# Altium integrated library 自定义库.IntLib: 520 symbols (part 6 of 6)
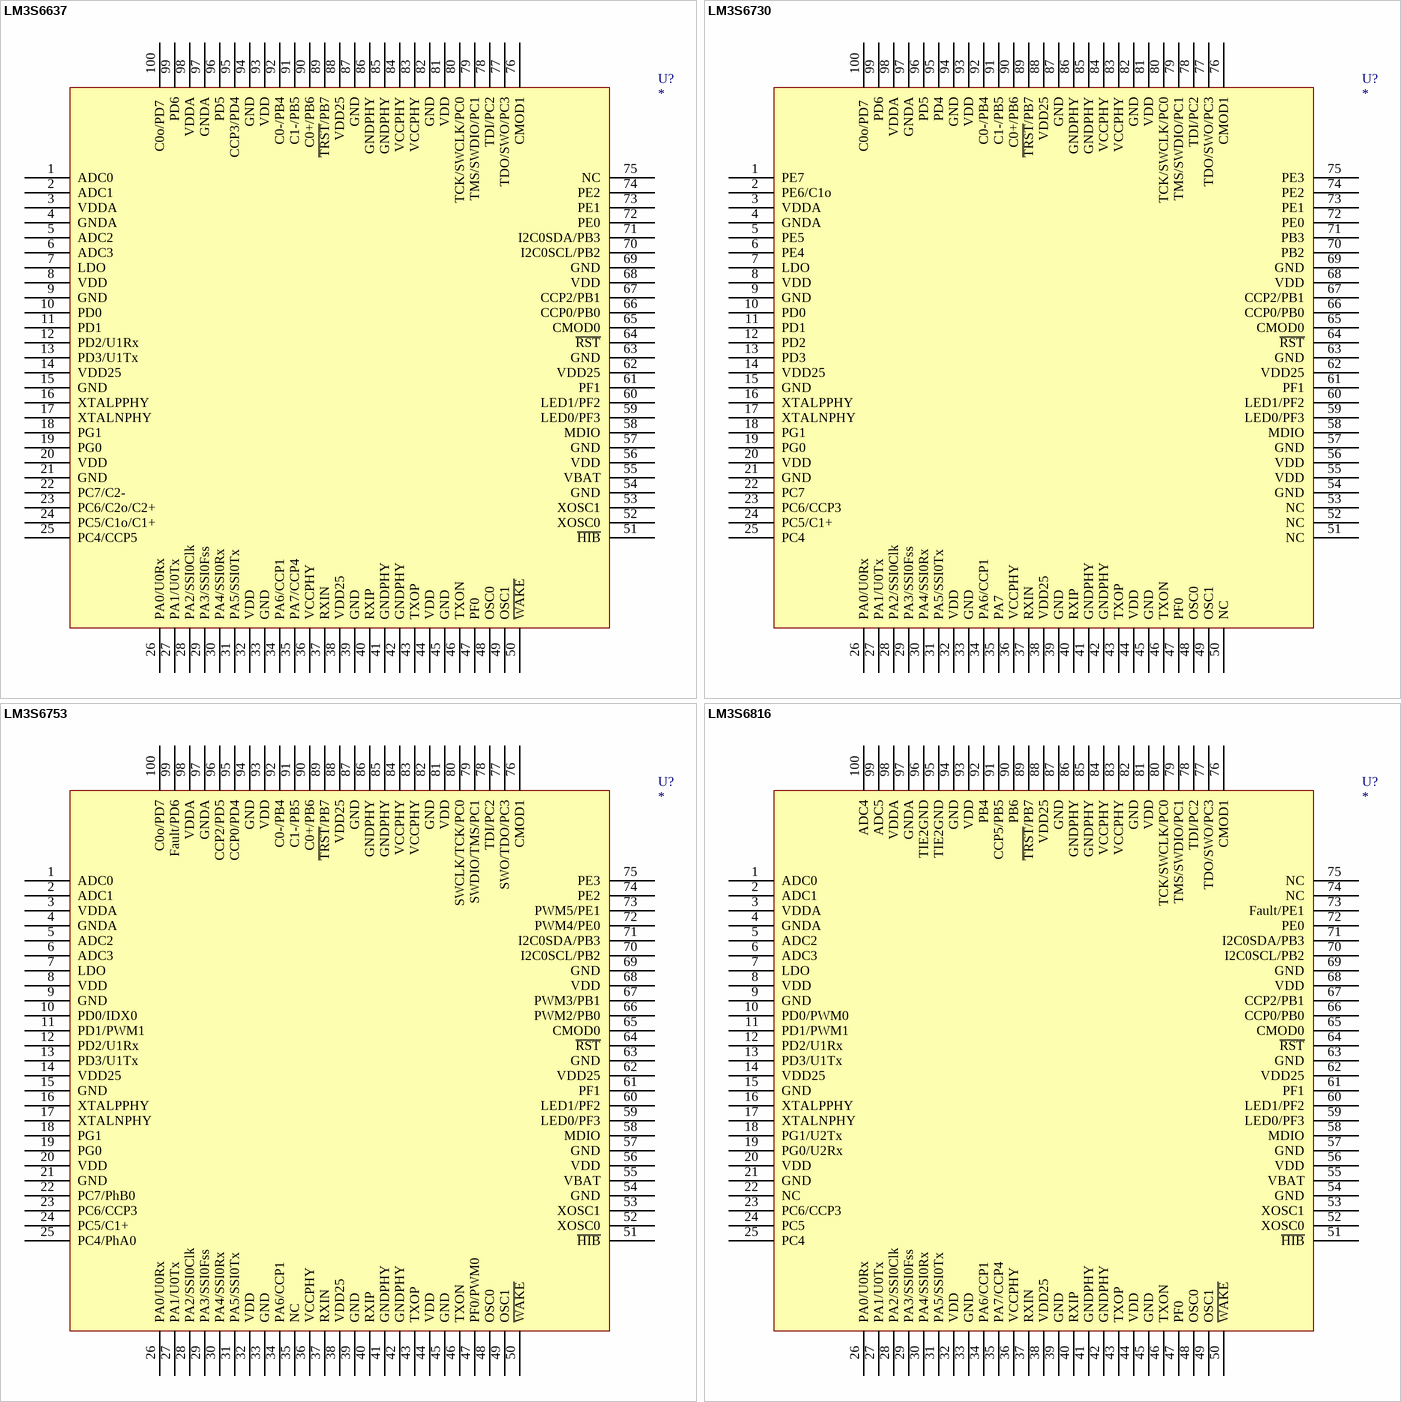
[diagram p45: symbols LM3S6637 to LM3S6816]

## LM3S6753
designator U?
footprint LQFP-100
pins: 1 ADC0, 2 ADC1, 3 VDDA, 4 GNDA, 5 ADC2, 6 ADC3, 7 LDO, 8 VDD, 9 GND, 10 PD0/IDX0, 11 PD1/PWM1, 12 PD2/U1Rx, 13 PD3/U1Tx, 14 VDD25, 15 GND, 16 XTALPPHY, 17 XTALNPHY, 18 PG1, 19 PG0, 20 VDD, 21 GND, 22 PC7/PhB0, 23 PC6/CCP3, 24 PC5/C1+, 25 PC4/PhA0, 26 PA0/U0Rx, 27 PA1/U0Tx, 28 PA2/SSI0Clk, 29 PA3/SSI0Fss, 30 PA4/SSI0Rx, 31 PA5/SSI0Tx, 32 VDD, 33 GND, 34 PA6/CCP1, 35 NC, 36 VCCPHY, 37 RXIN, 38 VDD25, 39 GND, 40 RXIP, 41 GNDPHY, 42 GNDPHY, 43 TXOP, 44 VDD, 45 GND, 46 TXON, 47 PF0/PWM0, 48 OSC0, 49 OSC1, 50 ~{WAKE}, 51 ~{HIB}, 52 XOSC0, 53 XOSC1, 54 GND, 55 VBAT, 56 VDD, 57 GND, 58 MDIO, 59 LED0/PF3, 60 LED1/PF2, 61 PF1, 62 VDD25, 63 GND, 64 ~{RST}, 65 CMOD0, 66 PWM2/PB0, 67 PWM3/PB1, 68 VDD, 69 GND, 70 I2C0SCL/PB2, 71 I2C0SDA/PB3, 72 PWM4/PE0, 73 PWM5/PE1, 74 PE2, 75 PE3, 76 CMOD1, 77 SWO/TDO/PC3, 78 TDI/PC2, 79 SWDIO/TMS/PC1, 80 SWCLK/TCK/PC0, 81 VDD, 82 GND, 83 VCCPHY, 84 VCCPHY, 85 GNDPHY, 86 GNDPHY, 87 GND, 88 VDD25, 89 ~{TRST}/PB7, 90 C0+/PB6, 91 C1-/PB5, 92 C0-/PB4, 93 VDD, 94 GND, 95 CCP0/PD4, 96 CCP2/PD5, 97 GNDA, 98 VDDA, 99 Fault/PD6, 100 C0o/PD7

## LM3S6816
designator U?
footprint LQFP-100
pins: 1 ADC0, 2 ADC1, 3 VDDA, 4 GNDA, 5 ADC2, 6 ADC3, 7 LDO, 8 VDD, 9 GND, 10 PD0/PWM0, 11 PD1/PWM1, 12 PD2/U1Rx, 13 PD3/U1Tx, 14 VDD25, 15 GND, 16 XTALPPHY, 17 XTALNPHY, 18 PG1/U2Tx, 19 PG0/U2Rx, 20 VDD, 21 GND, 22 NC, 23 PC6/CCP3, 24 PC5, 25 PC4, 26 PA0/U0Rx, 27 PA1/U0Tx, 28 PA2/SSI0Clk, 29 PA3/SSI0Fss, 30 PA4/SSI0Rx, 31 PA5/SSI0Tx, 32 VDD, 33 GND, 34 PA6/CCP1, 35 PA7/CCP4, 36 VCCPHY, 37 RXIN, 38 VDD25, 39 GND, 40 RXIP, 41 GNDPHY, 42 GNDPHY, 43 TXOP, 44 VDD, 45 GND, 46 TXON, 47 PF0, 48 OSC0, 49 OSC1, 50 ~{WAKE}, 51 ~{HIB}, 52 XOSC0, 53 XOSC1, 54 GND, 55 VBAT, 56 VDD, 57 GND, 58 MDIO, 59 LED0/PF3, 60 LED1/PF2, 61 PF1, 62 VDD25, 63 GND, 64 ~{RST}, 65 CMOD0, 66 CCP0/PB0, 67 CCP2/PB1, 68 VDD, 69 GND, 70 I2C0SCL/PB2, 71 I2C0SDA/PB3, 72 PE0, 73 Fault/PE1, 74 NC, 75 NC, 76 CMOD1, 77 TDO/SWO/PC3, 78 TDI/PC2, 79 TMS/SWDIO/PC1, 80 TCK/SWCLK/PC0, 81 VDD, 82 GND, 83 VCCPHY, 84 VCCPHY, 85 GNDPHY, 86 GNDPHY, 87 GND, 88 VDD25, 89 ~{TRST}/PB7, 90 PB6, 91 CCP5/PB5, 92 PB4, 93 VDD, 94 GND, 95 TIE2GND, 96 TIE2GND, 97 GNDA, 98 VDDA, 99 ADC5, 100 ADC4

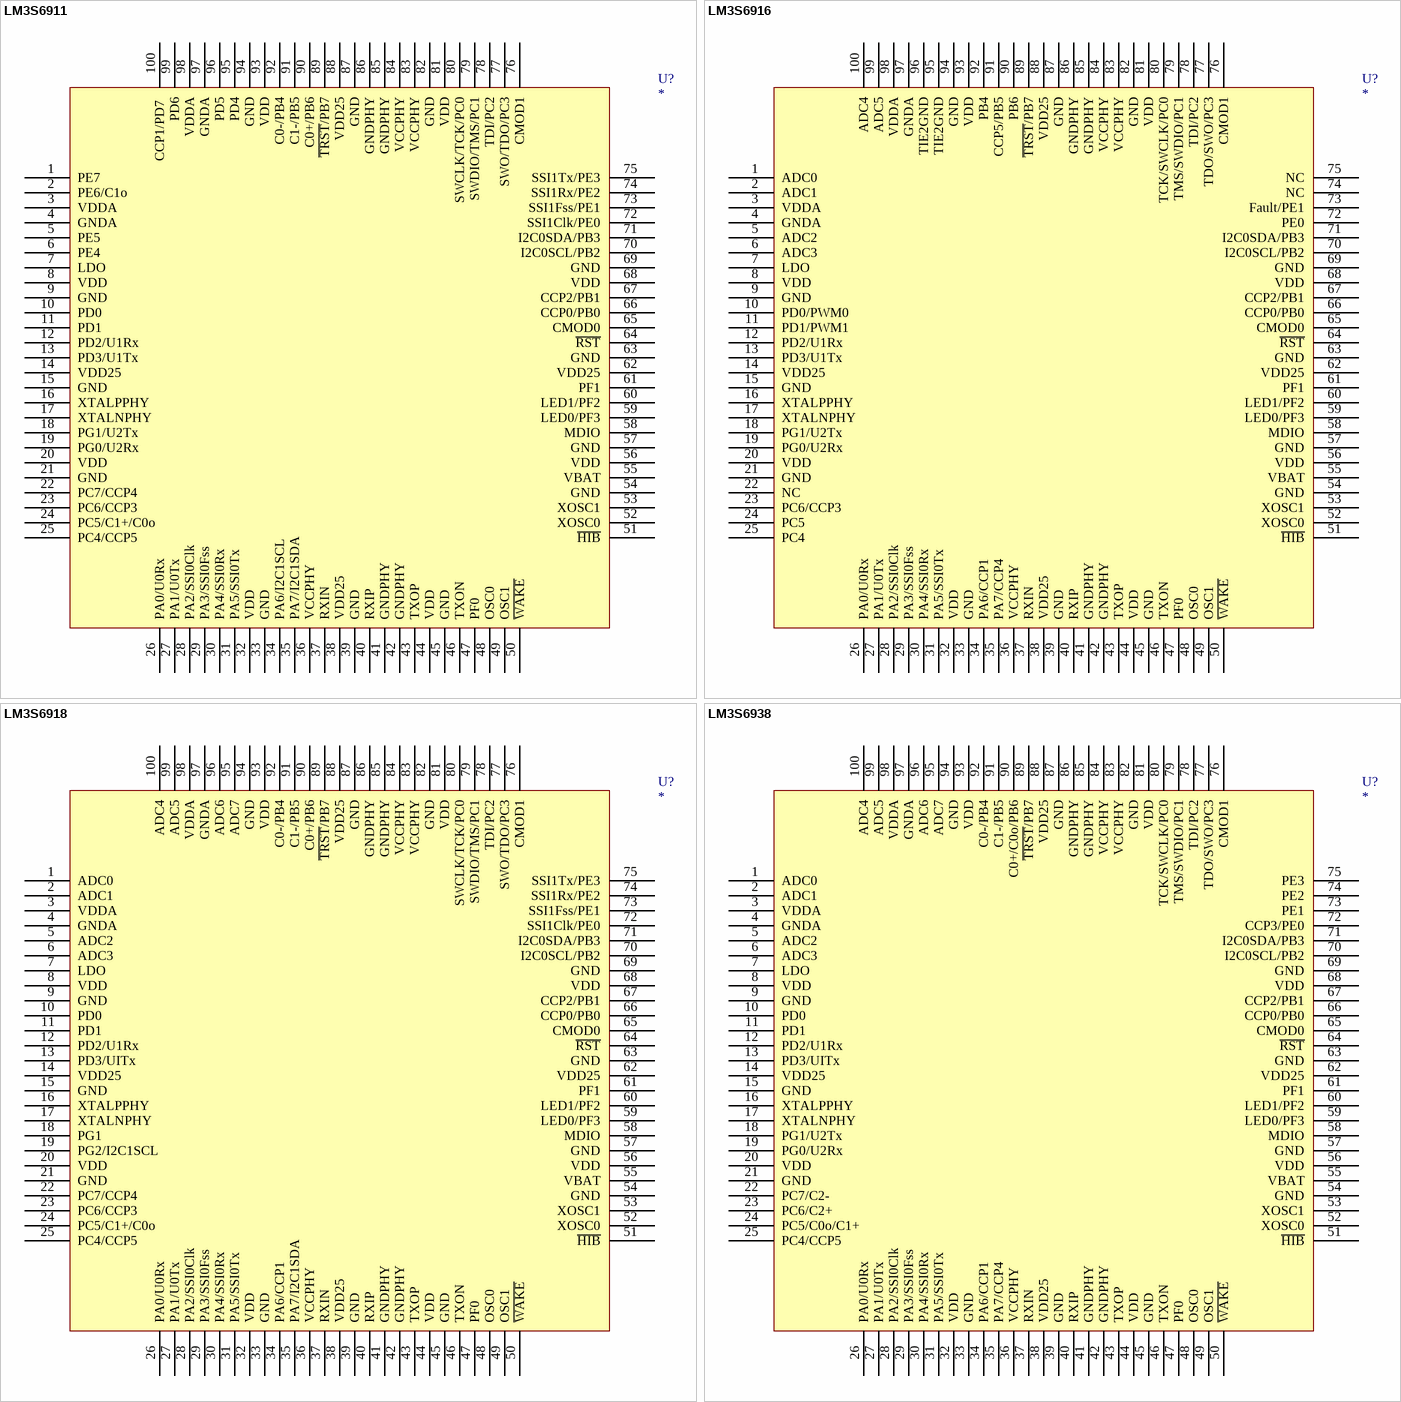
[diagram p36: symbols LM3S6911 to LM3S6938]

## LM3S6911
designator U?
footprint LQFP-100
pins: 1 PE7, 2 PE6/C1o, 3 VDDA, 4 GNDA, 5 PE5, 6 PE4, 7 LDO, 8 VDD, 9 GND, 10 PD0, 11 PD1, 12 PD2/U1Rx, 13 PD3/U1Tx, 14 VDD25, 15 GND, 16 XTALPPHY, 17 XTALNPHY, 18 PG1/U2Tx, 19 PG0/U2Rx, 20 VDD, 21 GND, 22 PC7/CCP4, 23 PC6/CCP3, 24 PC5/C1+/C0o, 25 PC4/CCP5, 26 PA0/U0Rx, 27 PA1/U0Tx, 28 PA2/SSI0Clk, 29 PA3/SSI0Fss, 30 PA4/SSI0Rx, 31 PA5/SSI0Tx, 32 VDD, 33 GND, 34 PA6/I2C1SCL, 35 PA7/I2C1SDA, 36 VCCPHY, 37 RXIN, 38 VDD25, 39 GND, 40 RXIP, 41 GNDPHY, 42 GNDPHY, 43 TXOP, 44 VDD, 45 GND, 46 TXON, 47 PF0, 48 OSC0, 49 OSC1, 50 ~{WAKE}, 51 ~{HIB}, 52 XOSC0, 53 XOSC1, 54 GND, 55 VBAT, 56 VDD, 57 GND, 58 MDIO, 59 LED0/PF3, 60 LED1/PF2, 61 PF1, 62 VDD25, 63 GND, 64 ~{RST}, 65 CMOD0, 66 CCP0/PB0, 67 CCP2/PB1, 68 VDD, 69 GND, 70 I2C0SCL/PB2, 71 I2C0SDA/PB3, 72 SSI1Clk/PE0, 73 SSI1Fss/PE1, 74 SSI1Rx/PE2, 75 SSI1Tx/PE3, 76 CMOD1, 77 SWO/TDO/PC3, 78 TDI/PC2, 79 SWDIO/TMS/PC1, 80 SWCLK/TCK/PC0, 81 VDD, 82 GND, 83 VCCPHY, 84 VCCPHY, 85 GNDPHY, 86 GNDPHY, 87 GND, 88 VDD25, 89 ~{TRST}/PB7, 90 C0+/PB6, 91 C1-/PB5, 92 C0-/PB4, 93 VDD, 94 GND, 95  PD4, 96 PD5, 97 GNDA, 98 VDDA, 99 PD6, 100 CCP1/PD7 

## LM3S6916
designator U?
footprint LQFP-100
pins: 1 ADC0, 2 ADC1, 3 VDDA, 4 GNDA, 5 ADC2, 6 ADC3, 7 LDO, 8 VDD, 9 GND, 10 PD0/PWM0, 11 PD1/PWM1, 12 PD2/U1Rx, 13 PD3/U1Tx, 14 VDD25, 15 GND, 16 XTALPPHY, 17 XTALNPHY, 18 PG1/U2Tx, 19 PG0/U2Rx, 20 VDD, 21 GND, 22 NC, 23 PC6/CCP3, 24 PC5, 25 PC4, 26 PA0/U0Rx, 27 PA1/U0Tx, 28 PA2/SSI0Clk, 29 PA3/SSI0Fss, 30 PA4/SSI0Rx, 31 PA5/SSI0Tx, 32 VDD, 33 GND, 34 PA6/CCP1, 35 PA7/CCP4, 36 VCCPHY, 37 RXIN, 38 VDD25, 39 GND, 40 RXIP, 41 GNDPHY, 42 GNDPHY, 43 TXOP, 44 VDD, 45 GND, 46 TXON, 47 PF0, 48 OSC0, 49 OSC1, 50 ~{WAKE}, 51 ~{HIB}, 52 XOSC0, 53 XOSC1, 54 GND, 55 VBAT, 56 VDD, 57 GND, 58 MDIO, 59 LED0/PF3, 60 LED1/PF2, 61 PF1, 62 VDD25, 63 GND, 64 ~{RST}, 65 CMOD0, 66 CCP0/PB0, 67 CCP2/PB1, 68 VDD, 69 GND, 70 I2C0SCL/PB2, 71 I2C0SDA/PB3, 72 PE0, 73 Fault/PE1, 74 NC, 75 NC, 76 CMOD1, 77 TDO/SWO/PC3, 78 TDI/PC2, 79 TMS/SWDIO/PC1, 80 TCK/SWCLK/PC0, 81 VDD, 82 GND, 83 VCCPHY, 84 VCCPHY, 85 GNDPHY, 86 GNDPHY, 87 GND, 88 VDD25, 89 ~{TRST}/PB7, 90 PB6, 91 CCP5/PB5, 92 PB4, 93 VDD, 94 GND, 95 TIE2GND, 96 TIE2GND, 97 GNDA, 98 VDDA, 99 ADC5, 100 ADC4

## LM3S6918
designator U?
footprint LQFP-100
pins: 1 ADC0, 2 ADC1, 3 VDDA, 4 GNDA, 5 ADC2, 6 ADC3, 7 LDO, 8 VDD, 9 GND, 10 PD0, 11 PD1, 12 PD2/U1Rx, 13 PD3/UITx, 14 VDD25, 15 GND, 16 XTALPPHY, 17 XTALNPHY, 18 PG1, 19 PG2/I2C1SCL, 20 VDD, 21 GND, 22 PC7/CCP4, 23 PC6/CCP3, 24 PC5/C1+/C0o, 25 PC4/CCP5, 26 PA0/U0Rx, 27 PA1/U0Tx, 28 PA2/SSI0Clk, 29 PA3/SSI0Fss, 30 PA4/SSI0Rx, 31 PA5/SSI0Tx, 32 VDD, 33 GND, 34 PA6/CCP1, 35 PA7/I2C1SDA, 36 VCCPHY, 37 RXIN, 38 VDD25, 39 GND, 40 RXIP, 41 GNDPHY, 42 GNDPHY, 43 TXOP, 44 VDD, 45 GND, 46 TXON, 47 PF0, 48 OSC0, 49 OSC1, 50 ~{WAKE}, 51 ~{HIB}, 52 XOSC0, 53 XOSC1, 54 GND, 55 VBAT, 56 VDD, 57 GND, 58 MDIO, 59 LED0/PF3, 60 LED1/PF2, 61 PF1, 62 VDD25, 63 GND, 64 ~{RST}, 65 CMOD0, 66 CCP0/PB0, 67 CCP2/PB1, 68 VDD, 69 GND, 70 I2C0SCL/PB2, 71 I2C0SDA/PB3, 72 SSI1Clk/PE0, 73 SSI1Fss/PE1, 74 SSI1Rx/PE2, 75 SSI1Tx/PE3, 76 CMOD1, 77 SWO/TDO/PC3, 78 TDI/PC2, 79 SWDIO/TMS/PC1, 80 SWCLK/TCK/PC0, 81 VDD, 82 GND, 83 VCCPHY, 84 VCCPHY, 85 GNDPHY, 86 GNDPHY, 87 GND, 88 VDD25, 89 ~{TRST}/PB7, 90 C0+/PB6, 91 C1-/PB5, 92 C0-/PB4, 93 VDD, 94 GND, 95 ADC7, 96 ADC6, 97 GNDA, 98 VDDA, 99 ADC5, 100 ADC4

## LM3S6938
designator U?
footprint LQFP-100
pins: 1 ADC0, 2 ADC1, 3 VDDA, 4 GNDA, 5 ADC2, 6 ADC3, 7 LDO, 8 VDD, 9 GND, 10 PD0, 11 PD1, 12 PD2/U1Rx, 13 PD3/UITx, 14 VDD25, 15 GND, 16 XTALPPHY, 17 XTALNPHY, 18 PG1/U2Tx, 19 PG0/U2Rx, 20 VDD, 21 GND, 22 PC7/C2-, 23 PC6/C2+, 24 PC5/C0o/C1+, 25 PC4/CCP5, 26 PA0/U0Rx, 27 PA1/U0Tx, 28 PA2/SSI0Clk, 29 PA3/SSI0Fss, 30 PA4/SSI0Rx, 31 PA5/SSI0Tx, 32 VDD, 33 GND, 34 PA6/CCP1, 35 PA7/CCP4, 36 VCCPHY, 37 RXIN, 38 VDD25, 39 GND, 40 RXIP, 41 GNDPHY, 42 GNDPHY, 43 TXOP, 44 VDD, 45 GND, 46 TXON, 47 PF0, 48 OSC0, 49 OSC1, 50 ~{WAKE}, 51 ~{HIB}, 52 XOSC0, 53 XOSC1, 54 GND, 55 VBAT, 56 VDD, 57 GND, 58 MDIO, 59 LED0/PF3, 60 LED1/PF2, 61 PF1, 62 VDD25, 63 GND, 64 ~{RST}, 65 CMOD0, 66 CCP0/PB0, 67 CCP2/PB1, 68 VDD, 69 GND, 70 I2C0SCL/PB2, 71 I2C0SDA/PB3, 72 CCP3/PE0, 73 PE1, 74 PE2, 75 PE3, 76 CMOD1, 77 TDO/SWO/PC3, 78 TDI/PC2, 79 TMS/SWDIO/PC1, 80 TCK/SWCLK/PC0, 81 VDD, 82 GND, 83 VCCPHY, 84 VCCPHY, 85 GNDPHY, 86 GNDPHY, 87 GND, 88 VDD25, 89 ~{TRST}/PB7, 90 C0+/C0o/PB6, 91 C1-/PB5, 92 C0-/PB4, 93 VDD, 94 GND, 95 ADC7, 96 ADC6, 97 GNDA, 98 VDDA, 99 ADC5, 100 ADC4

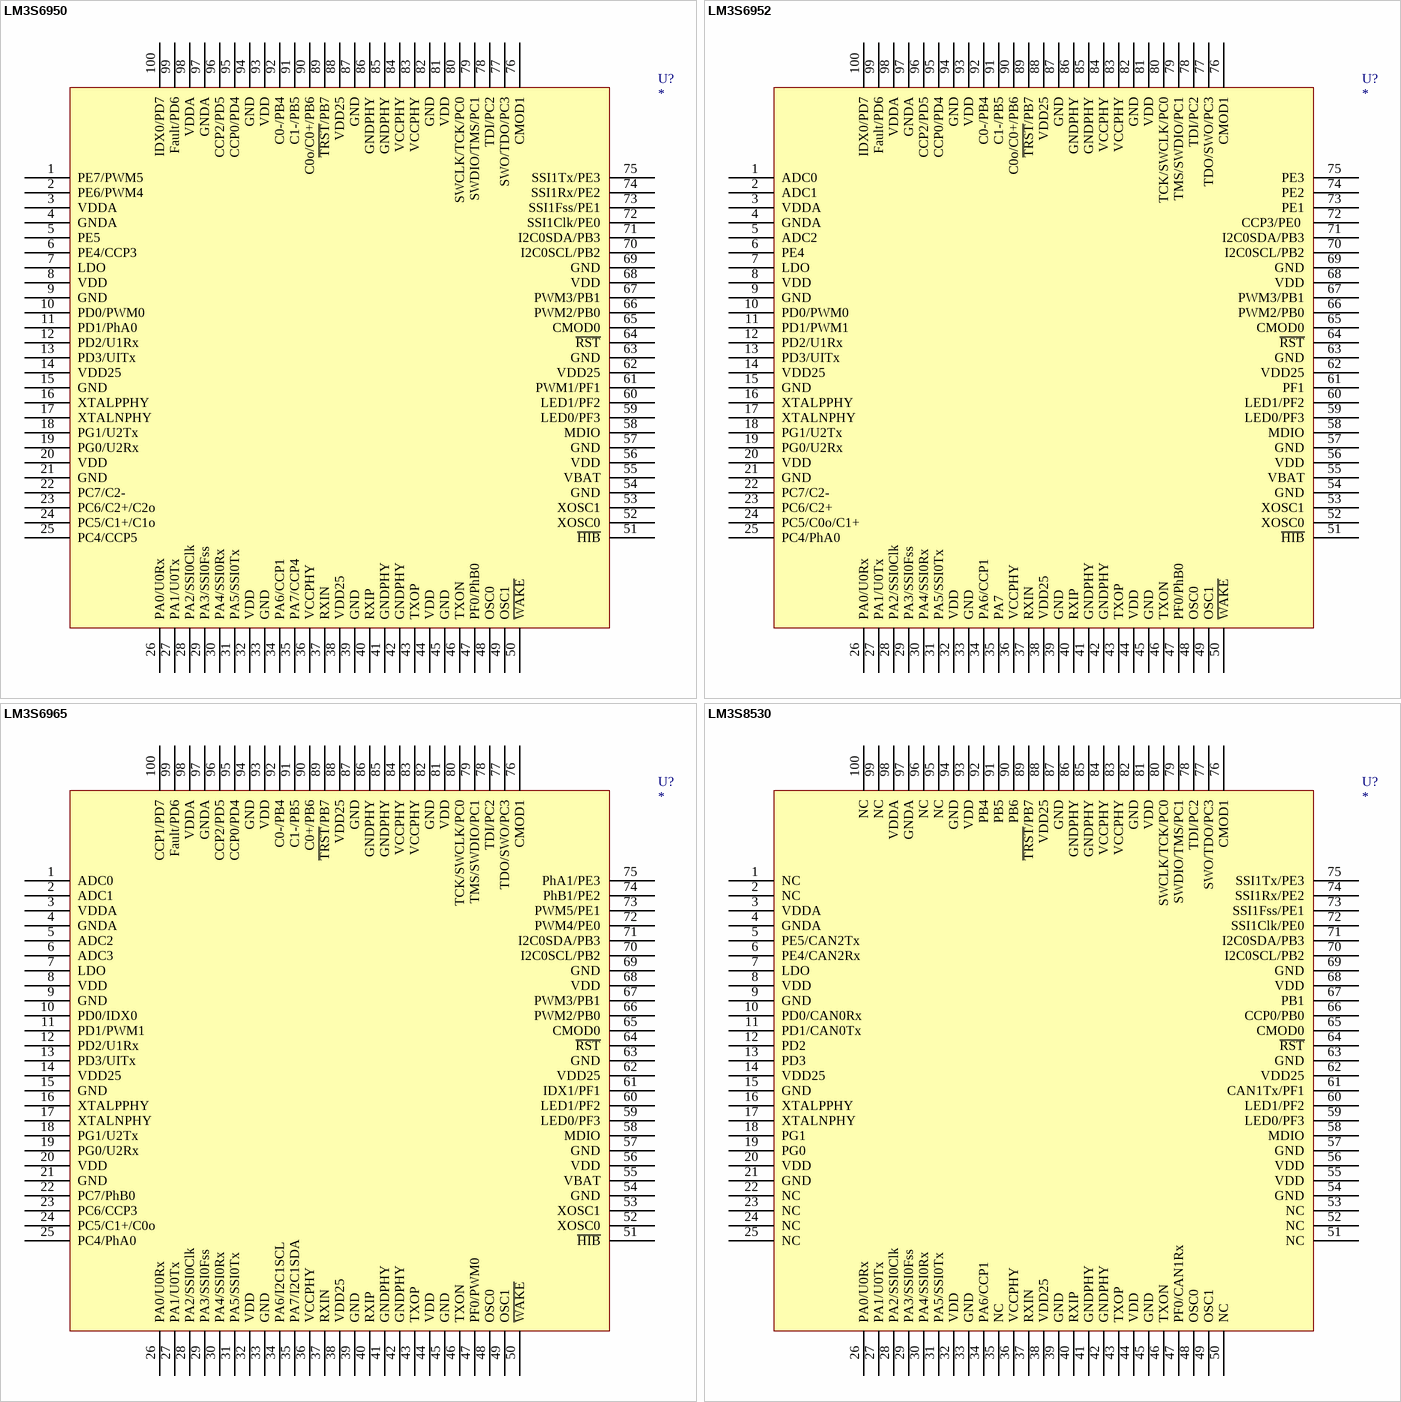
[diagram p37: symbols LM3S6950 to LM3S8530]

## LM3S6950
designator U?
footprint LQFP-100
pins: 1 PE7/PWM5, 2 PE6/PWM4, 3 VDDA, 4 GNDA, 5 PE5, 6 PE4/CCP3, 7 LDO, 8 VDD, 9 GND, 10 PD0/PWM0, 11 PD1/PhA0, 12 PD2/U1Rx, 13 PD3/UITx, 14 VDD25, 15 GND, 16 XTALPPHY, 17 XTALNPHY, 18 PG1/U2Tx, 19 PG0/U2Rx, 20 VDD, 21 GND, 22 PC7/C2-, 23 PC6/C2+/C2o, 24 PC5/C1+/C1o, 25 PC4/CCP5, 26 PA0/U0Rx, 27 PA1/U0Tx, 28 PA2/SSI0Clk, 29 PA3/SSI0Fss, 30 PA4/SSI0Rx, 31 PA5/SSI0Tx, 32 VDD, 33 GND, 34 PA6/CCP1, 35 PA7/CCP4, 36 VCCPHY, 37 RXIN, 38 VDD25, 39 GND, 40 RXIP, 41 GNDPHY, 42 GNDPHY, 43 TXOP, 44 VDD, 45 GND, 46 TXON, 47 PF0/PhB0, 48 OSC0, 49 OSC1, 50 ~{WAKE}, 51 ~{HIB}, 52 XOSC0, 53 XOSC1, 54 GND, 55 VBAT, 56 VDD, 57 GND, 58 MDIO, 59 LED0/PF3, 60 LED1/PF2, 61 PWM1/PF1, 62 VDD25, 63 GND, 64 ~{RST}, 65 CMOD0, 66 PWM2/PB0, 67 PWM3/PB1, 68 VDD, 69 GND, 70 I2C0SCL/PB2, 71 I2C0SDA/PB3, 72 SSI1Clk/PE0, 73 SSI1Fss/PE1, 74 SSI1Rx/PE2, 75 SSI1Tx/PE3, 76 CMOD1, 77 SWO/TDO/PC3, 78 TDI/PC2, 79 SWDIO/TMS/PC1, 80 SWCLK/TCK/PC0, 81 VDD, 82 GND, 83 VCCPHY, 84 VCCPHY, 85 GNDPHY, 86 GNDPHY, 87 GND, 88 VDD25, 89 ~{TRST}/PB7, 90 C0o/C0+/PB6, 91 C1-/PB5, 92 C0-/PB4, 93 VDD, 94 GND, 95 CCP0/PD4, 96 CCP2/PD5, 97 GNDA, 98 VDDA, 99 Fault/PD6, 100 IDX0/PD7

## LM3S6952
designator U?
footprint LQFP-100
pins: 1 ADC0, 2 ADC1, 3 VDDA, 4 GNDA, 5 ADC2, 6 PE4, 7 LDO, 8 VDD, 9 GND, 10 PD0/PWM0, 11 PD1/PWM1, 12 PD2/U1Rx, 13 PD3/UITx, 14 VDD25, 15 GND, 16 XTALPPHY, 17 XTALNPHY, 18 PG1/U2Tx, 19 PG0/U2Rx, 20 VDD, 21 GND, 22 PC7/C2-, 23 PC6/C2+, 24 PC5/C0o/C1+, 25 PC4/PhA0, 26 PA0/U0Rx, 27 PA1/U0Tx, 28 PA2/SSI0Clk, 29 PA3/SSI0Fss, 30 PA4/SSI0Rx, 31 PA5/SSI0Tx, 32 VDD, 33 GND, 34 PA6/CCP1, 35 PA7, 36 VCCPHY, 37 RXIN, 38 VDD25, 39 GND, 40 RXIP, 41 GNDPHY, 42 GNDPHY, 43 TXOP, 44 VDD, 45 GND, 46 TXON, 47 PF0/PhB0, 48 OSC0, 49 OSC1, 50 ~{WAKE}, 51 ~{HIB}, 52 XOSC0, 53 XOSC1, 54 GND, 55 VBAT, 56 VDD, 57 GND, 58 MDIO, 59 LED0/PF3, 60 LED1/PF2, 61 PF1, 62 VDD25, 63 GND, 64 ~{RST}, 65 CMOD0, 66 PWM2/PB0, 67 PWM3/PB1, 68 VDD, 69 GND, 70 I2C0SCL/PB2, 71 I2C0SDA/PB3, 72 CCP3/PE0 , 73 PE1, 74 PE2, 75 PE3, 76 CMOD1, 77 TDO/SWO/PC3, 78 TDI/PC2, 79 TMS/SWDIO/PC1, 80 TCK/SWCLK/PC0, 81 VDD, 82 GND, 83 VCCPHY, 84 VCCPHY, 85 GNDPHY, 86 GNDPHY, 87 GND, 88 VDD25, 89 ~{TRST}/PB7, 90 C0o/C0+/PB6, 91 C1-/PB5, 92 C0-/PB4, 93 VDD, 94 GND, 95 CCP0/PD4, 96 CCP2/PD5, 97 GNDA, 98 VDDA, 99 Fault/PD6, 100 IDX0/PD7

## LM3S6965
designator U?
footprint LQFP-100
pins: 1 ADC0, 2 ADC1, 3 VDDA, 4 GNDA, 5 ADC2, 6 ADC3, 7 LDO, 8 VDD, 9 GND, 10 PD0/IDX0, 11 PD1/PWM1, 12 PD2/U1Rx, 13 PD3/UITx, 14 VDD25, 15 GND, 16 XTALPPHY, 17 XTALNPHY, 18 PG1/U2Tx, 19 PG0/U2Rx, 20 VDD, 21 GND, 22 PC7/PhB0, 23 PC6/CCP3, 24 PC5/C1+/C0o, 25 PC4/PhA0, 26 PA0/U0Rx, 27 PA1/U0Tx, 28 PA2/SSI0Clk, 29 PA3/SSI0Fss, 30 PA4/SSI0Rx, 31 PA5/SSI0Tx, 32 VDD, 33 GND, 34 PA6/I2C1SCL, 35 PA7/I2C1SDA, 36 VCCPHY, 37 RXIN, 38 VDD25, 39 GND, 40 RXIP, 41 GNDPHY, 42 GNDPHY, 43 TXOP, 44 VDD, 45 GND, 46 TXON, 47 PF0/PWM0, 48 OSC0, 49 OSC1, 50 ~{WAKE}, 51 ~{HIB}, 52 XOSC0, 53 XOSC1, 54 GND, 55 VBAT, 56 VDD, 57 GND, 58 MDIO, 59 LED0/PF3, 60 LED1/PF2, 61 IDX1/PF1, 62 VDD25, 63 GND, 64 ~{RST}, 65 CMOD0, 66  PWM2/PB0, 67 PWM3/PB1, 68 VDD, 69 GND, 70 I2C0SCL/PB2, 71 I2C0SDA/PB3, 72 PWM4/PE0, 73 PWM5/PE1, 74 PhB1/PE2, 75 PhA1/PE3, 76 CMOD1, 77 TDO/SWO/PC3, 78 TDI/PC2, 79 TMS/SWDIO/PC1, 80 TCK/SWCLK/PC0, 81 VDD, 82 GND, 83 VCCPHY, 84 VCCPHY, 85 GNDPHY, 86 GNDPHY, 87 GND, 88 VDD25, 89 ~{TRST}/PB7, 90 C0+/PB6, 91 C1-/PB5, 92 C0-/PB4, 93 VDD, 94 GND, 95 CCP0/PD4, 96 CCP2/PD5, 97 GNDA, 98 VDDA, 99 Fault/PD6, 100 CCP1/PD7

## LM3S8530
designator U?
footprint LQFP-100
pins: 1 NC, 2 NC, 3 VDDA, 4 GNDA, 5 PE5/CAN2Tx, 6 PE4/CAN2Rx, 7 LDO, 8 VDD, 9 GND, 10 PD0/CAN0Rx, 11 PD1/CAN0Tx, 12 PD2, 13 PD3, 14 VDD25, 15 GND, 16 XTALPPHY, 17 XTALNPHY, 18 PG1, 19 PG0, 20 VDD, 21 GND, 22 NC, 23 NC, 24 NC, 25 NC, 26 PA0/U0Rx, 27 PA1/U0Tx, 28 PA2/SSI0Clk, 29 PA3/SSI0Fss, 30 PA4/SSI0Rx, 31 PA5/SSI0Tx, 32 VDD, 33 GND, 34 PA6/CCP1, 35 NC, 36 VCCPHY, 37 RXIN, 38 VDD25, 39 GND, 40 RXIP, 41 GNDPHY, 42 GNDPHY, 43 TXOP, 44 VDD, 45 GND, 46 TXON, 47 PF0/CAN1Rx, 48 OSC0, 49 OSC1, 50 NC, 51 NC, 52 NC, 53 NC, 54 GND, 55 VDD, 56 VDD, 57 GND, 58 MDIO, 59 LED0/PF3, 60 LED1/PF2, 61 CAN1Tx/PF1, 62 VDD25, 63 GND, 64 ~{RST}, 65 CMOD0, 66 CCP0/PB0, 67 PB1, 68 VDD, 69 GND, 70 I2C0SCL/PB2, 71 I2C0SDA/PB3, 72 SSI1Clk/PE0, 73 SSI1Fss/PE1, 74 SSI1Rx/PE2, 75 SSI1Tx/PE3, 76 CMOD1, 77 SWO/TDO/PC3, 78 TDI/PC2, 79 SWDIO/TMS/PC1, 80 SWCLK/TCK/PC0, 81 VDD, 82 GND, 83 VCCPHY, 84 VCCPHY, 85 GNDPHY, 86 GNDPHY, 87 GND, 88 VDD25, 89 ~{TRST}/PB7, 90 PB6, 91 PB5, 92 PB4, 93 VDD, 94 GND, 95 NC, 96 NC, 97 GNDA, 98 VDDA, 99 NC, 100 NC

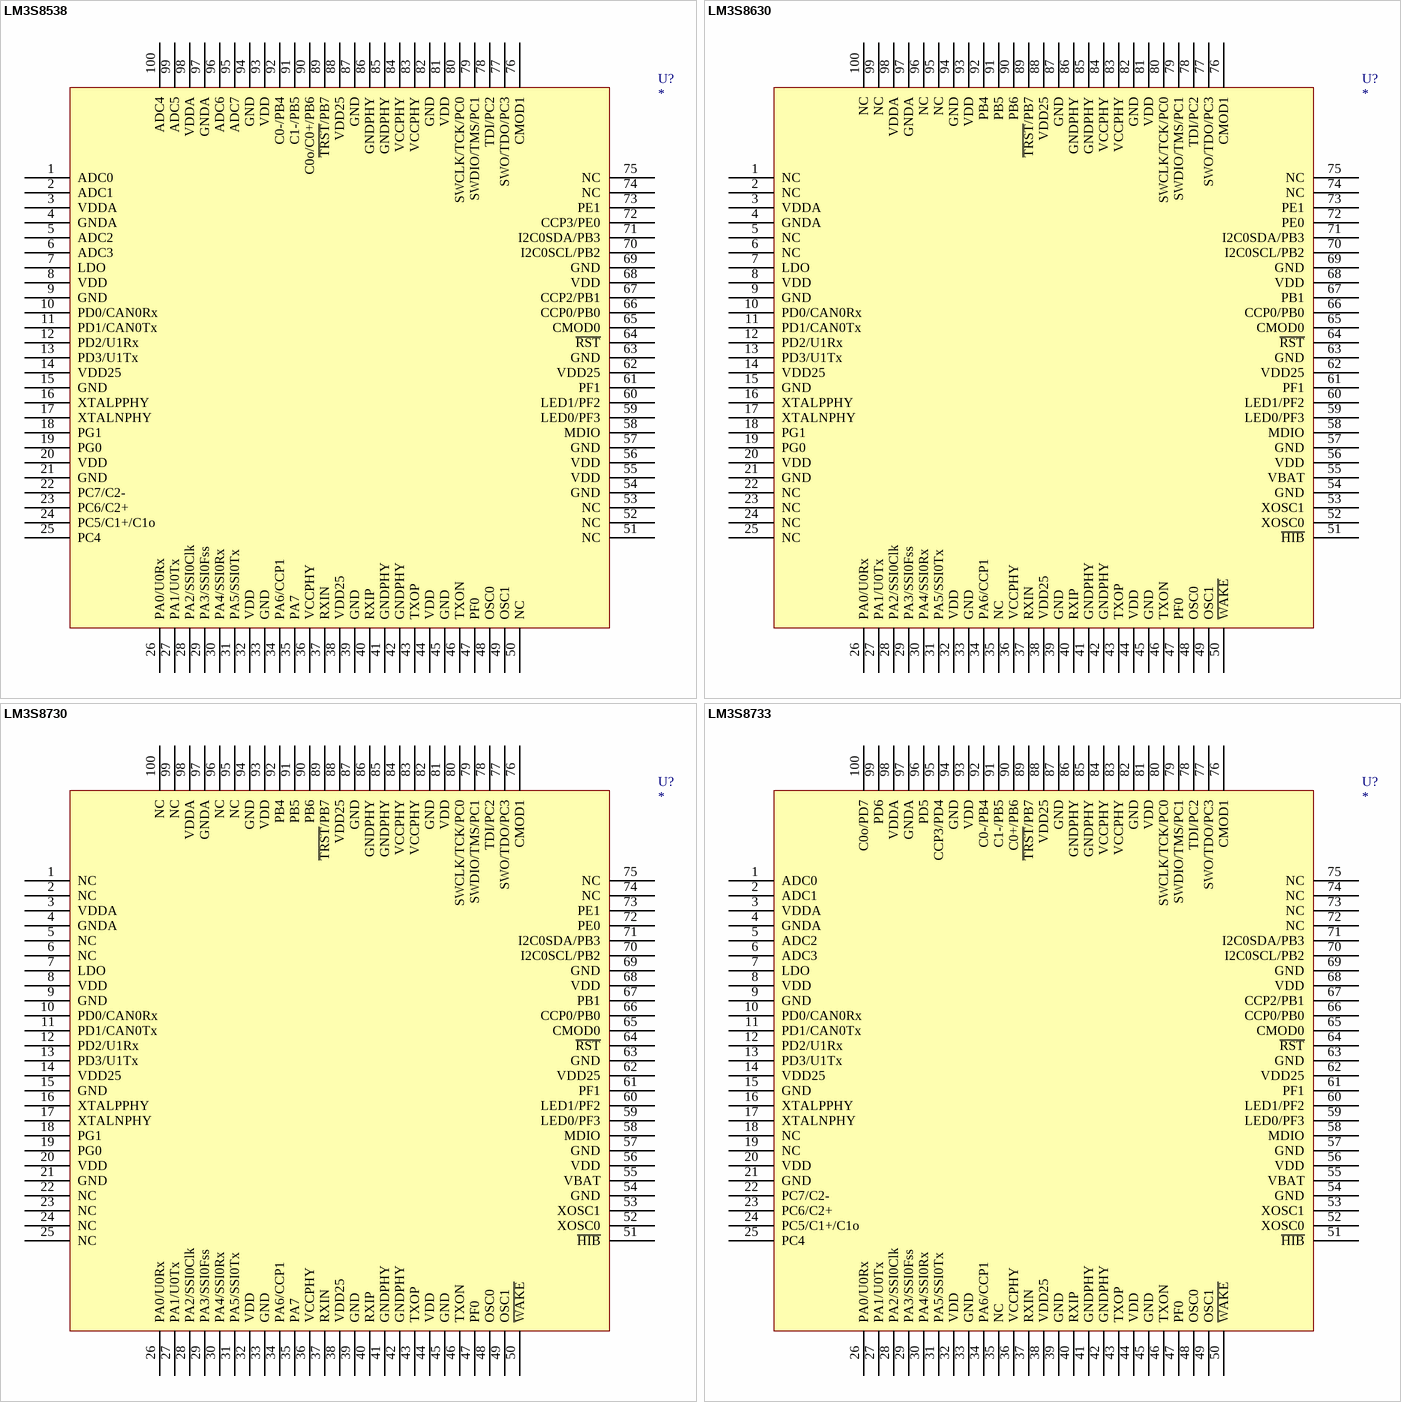
[diagram p38: symbols LM3S8538 to LM3S8733]

## LM3S8538
designator U?
footprint LQFP-100
pins: 1 ADC0, 2 ADC1, 3 VDDA, 4 GNDA, 5 ADC2, 6 ADC3, 7 LDO, 8 VDD, 9 GND, 10 PD0/CAN0Rx, 11 PD1/CAN0Tx, 12 PD2/U1Rx, 13 PD3/U1Tx, 14 VDD25, 15 GND, 16 XTALPPHY, 17 XTALNPHY, 18 PG1, 19 PG0, 20 VDD, 21 GND, 22 PC7/C2-, 23 PC6/C2+, 24 PC5/C1+/C1o, 25 PC4, 26 PA0/U0Rx, 27 PA1/U0Tx, 28 PA2/SSI0Clk, 29 PA3/SSI0Fss, 30 PA4/SSI0Rx, 31 PA5/SSI0Tx, 32 VDD, 33 GND, 34 PA6/CCP1, 35 PA7, 36 VCCPHY, 37 RXIN, 38 VDD25, 39 GND, 40 RXIP, 41 GNDPHY, 42 GNDPHY, 43 TXOP, 44 VDD, 45 GND, 46 TXON, 47 PF0, 48 OSC0, 49 OSC1, 50 NC, 51 NC, 52 NC, 53 NC, 54 GND, 55 VDD, 56 VDD, 57 GND, 58 MDIO, 59 LED0/PF3, 60 LED1/PF2, 61 PF1, 62 VDD25, 63 GND, 64 ~{RST}, 65 CMOD0, 66 CCP0/PB0, 67 CCP2/PB1, 68 VDD, 69 GND, 70 I2C0SCL/PB2, 71 I2C0SDA/PB3, 72 CCP3/PE0, 73 PE1, 74 NC, 75 NC, 76 CMOD1, 77 SWO/TDO/PC3, 78 TDI/PC2, 79 SWDIO/TMS/PC1, 80 SWCLK/TCK/PC0, 81 VDD, 82 GND, 83 VCCPHY, 84 VCCPHY, 85 GNDPHY, 86 GNDPHY, 87 GND, 88 VDD25, 89 ~{TRST}/PB7, 90 C0o/C0+/PB6, 91 C1-/PB5, 92 C0-/PB4, 93 VDD, 94 GND, 95 ADC7, 96 ADC6, 97 GNDA, 98 VDDA, 99 ADC5, 100 ADC4

## LM3S8630
designator U?
footprint LQFP-100
pins: 1 NC, 2 NC, 3 VDDA, 4 GNDA, 5 NC, 6 NC, 7 LDO, 8 VDD, 9 GND, 10 PD0/CAN0Rx, 11 PD1/CAN0Tx, 12 PD2/U1Rx, 13 PD3/U1Tx, 14 VDD25, 15 GND, 16 XTALPPHY, 17 XTALNPHY, 18 PG1, 19 PG0, 20 VDD, 21 GND, 22 NC, 23 NC, 24 NC, 25 NC, 26 PA0/U0Rx, 27 PA1/U0Tx, 28 PA2/SSI0Clk, 29 PA3/SSI0Fss, 30 PA4/SSI0Rx, 31 PA5/SSI0Tx, 32 VDD, 33 GND, 34 PA6/CCP1, 35 NC, 36 VCCPHY, 37 RXIN, 38 VDD25, 39 GND, 40 RXIP, 41 GNDPHY, 42 GNDPHY, 43 TXOP, 44 VDD, 45 GND, 46 TXON, 47 PF0, 48 OSC0, 49 OSC1, 50 ~{WAKE}, 51 ~{HIB}, 52 XOSC0, 53 XOSC1, 54 GND, 55 VBAT, 56 VDD, 57 GND, 58 MDIO, 59 LED0/PF3, 60 LED1/PF2, 61 PF1, 62 VDD25, 63 GND, 64 ~{RST}, 65 CMOD0, 66 CCP0/PB0, 67 PB1, 68 VDD, 69 GND, 70 I2C0SCL/PB2, 71 I2C0SDA/PB3, 72 PE0, 73 PE1, 74 NC, 75 NC, 76 CMOD1, 77 SWO/TDO/PC3, 78 TDI/PC2, 79 SWDIO/TMS/PC1, 80 SWCLK/TCK/PC0, 81 VDD, 82 GND, 83 VCCPHY, 84 VCCPHY, 85 GNDPHY, 86 GNDPHY, 87 GND, 88 VDD25, 89 ~{TRST}/PB7, 90 PB6, 91 PB5, 92 PB4, 93 VDD, 94 GND, 95 NC, 96 NC, 97 GNDA, 98 VDDA, 99 NC, 100 NC

## LM3S8730
designator U?
footprint LQFP-100
pins: 1 NC, 2 NC, 3 VDDA, 4 GNDA, 5 NC, 6 NC, 7 LDO, 8 VDD, 9 GND, 10 PD0/CAN0Rx, 11 PD1/CAN0Tx, 12 PD2/U1Rx, 13 PD3/U1Tx, 14 VDD25, 15 GND, 16 XTALPPHY, 17 XTALNPHY, 18 PG1, 19 PG0, 20 VDD, 21 GND, 22 NC, 23 NC, 24 NC, 25 NC, 26 PA0/U0Rx, 27 PA1/U0Tx, 28 PA2/SSI0Clk, 29 PA3/SSI0Fss, 30 PA4/SSI0Rx, 31 PA5/SSI0Tx, 32 VDD, 33 GND, 34 PA6/CCP1, 35 PA7, 36 VCCPHY, 37 RXIN, 38 VDD25, 39 GND, 40 RXIP, 41 GNDPHY, 42 GNDPHY, 43 TXOP, 44 VDD, 45 GND, 46 TXON, 47 PF0, 48 OSC0, 49 OSC1, 50 ~{WAKE}, 51 ~{HIB}, 52 XOSC0, 53 XOSC1, 54 GND, 55 VBAT, 56 VDD, 57 GND, 58 MDIO, 59 LED0/PF3, 60 LED1/PF2, 61 PF1, 62 VDD25, 63 GND, 64 ~{RST}, 65 CMOD0, 66 CCP0/PB0, 67 PB1, 68 VDD, 69 GND, 70 I2C0SCL/PB2, 71 I2C0SDA/PB3, 72 PE0, 73 PE1, 74 NC, 75 NC, 76 CMOD1, 77 SWO/TDO/PC3, 78 TDI/PC2, 79 SWDIO/TMS/PC1, 80 SWCLK/TCK/PC0, 81 VDD, 82 GND, 83 VCCPHY, 84 VCCPHY, 85 GNDPHY, 86 GNDPHY, 87 GND, 88 VDD25, 89 ~{TRST}/PB7, 90 PB6, 91 PB5, 92 PB4, 93 VDD, 94 GND, 95 NC, 96 NC, 97 GNDA, 98 VDDA, 99 NC, 100 NC

## LM3S8733
designator U?
footprint LQFP-100
pins: 1 ADC0, 2 ADC1, 3 VDDA, 4 GNDA, 5 ADC2, 6 ADC3, 7 LDO, 8 VDD, 9 GND, 10 PD0/CAN0Rx, 11 PD1/CAN0Tx, 12 PD2/U1Rx, 13 PD3/U1Tx, 14 VDD25, 15 GND, 16 XTALPPHY, 17 XTALNPHY, 18 NC, 19 NC, 20 VDD, 21 GND, 22 PC7/C2-, 23 PC6/C2+, 24 PC5/C1+/C1o, 25 PC4, 26 PA0/U0Rx, 27 PA1/U0Tx, 28 PA2/SSI0Clk, 29 PA3/SSI0Fss, 30 PA4/SSI0Rx, 31 PA5/SSI0Tx, 32 VDD, 33 GND, 34 PA6/CCP1, 35 NC, 36 VCCPHY, 37 RXIN, 38 VDD25, 39 GND, 40 RXIP, 41 GNDPHY, 42 GNDPHY, 43 TXOP, 44 VDD, 45 GND, 46 TXON, 47 PF0, 48 OSC0, 49 OSC1, 50 ~{WAKE}, 51 ~{HIB}, 52 XOSC0, 53 XOSC1, 54 GND, 55 VBAT, 56 VDD, 57 GND, 58 MDIO, 59 LED0/PF3, 60 LED1/PF2, 61 PF1, 62 VDD25, 63 GND, 64 ~{RST}, 65 CMOD0, 66 CCP0/PB0, 67 CCP2/PB1, 68 VDD, 69 GND, 70 I2C0SCL/PB2, 71 I2C0SDA/PB3, 72 NC, 73 NC, 74 NC, 75 NC, 76 CMOD1, 77 SWO/TDO/PC3, 78 TDI/PC2, 79 SWDIO/TMS/PC1, 80 SWCLK/TCK/PC0, 81 VDD, 82 GND, 83 VCCPHY, 84 VCCPHY, 85 GNDPHY, 86 GNDPHY, 87 GND, 88 VDD25, 89 ~{TRST}/PB7, 90 C0+/PB6, 91 C1-/PB5, 92 C0-/PB4, 93 VDD, 94 GND, 95 CCP3/PD4, 96 PD5, 97 GNDA, 98 VDDA, 99 PD6, 100 C0o/PD7

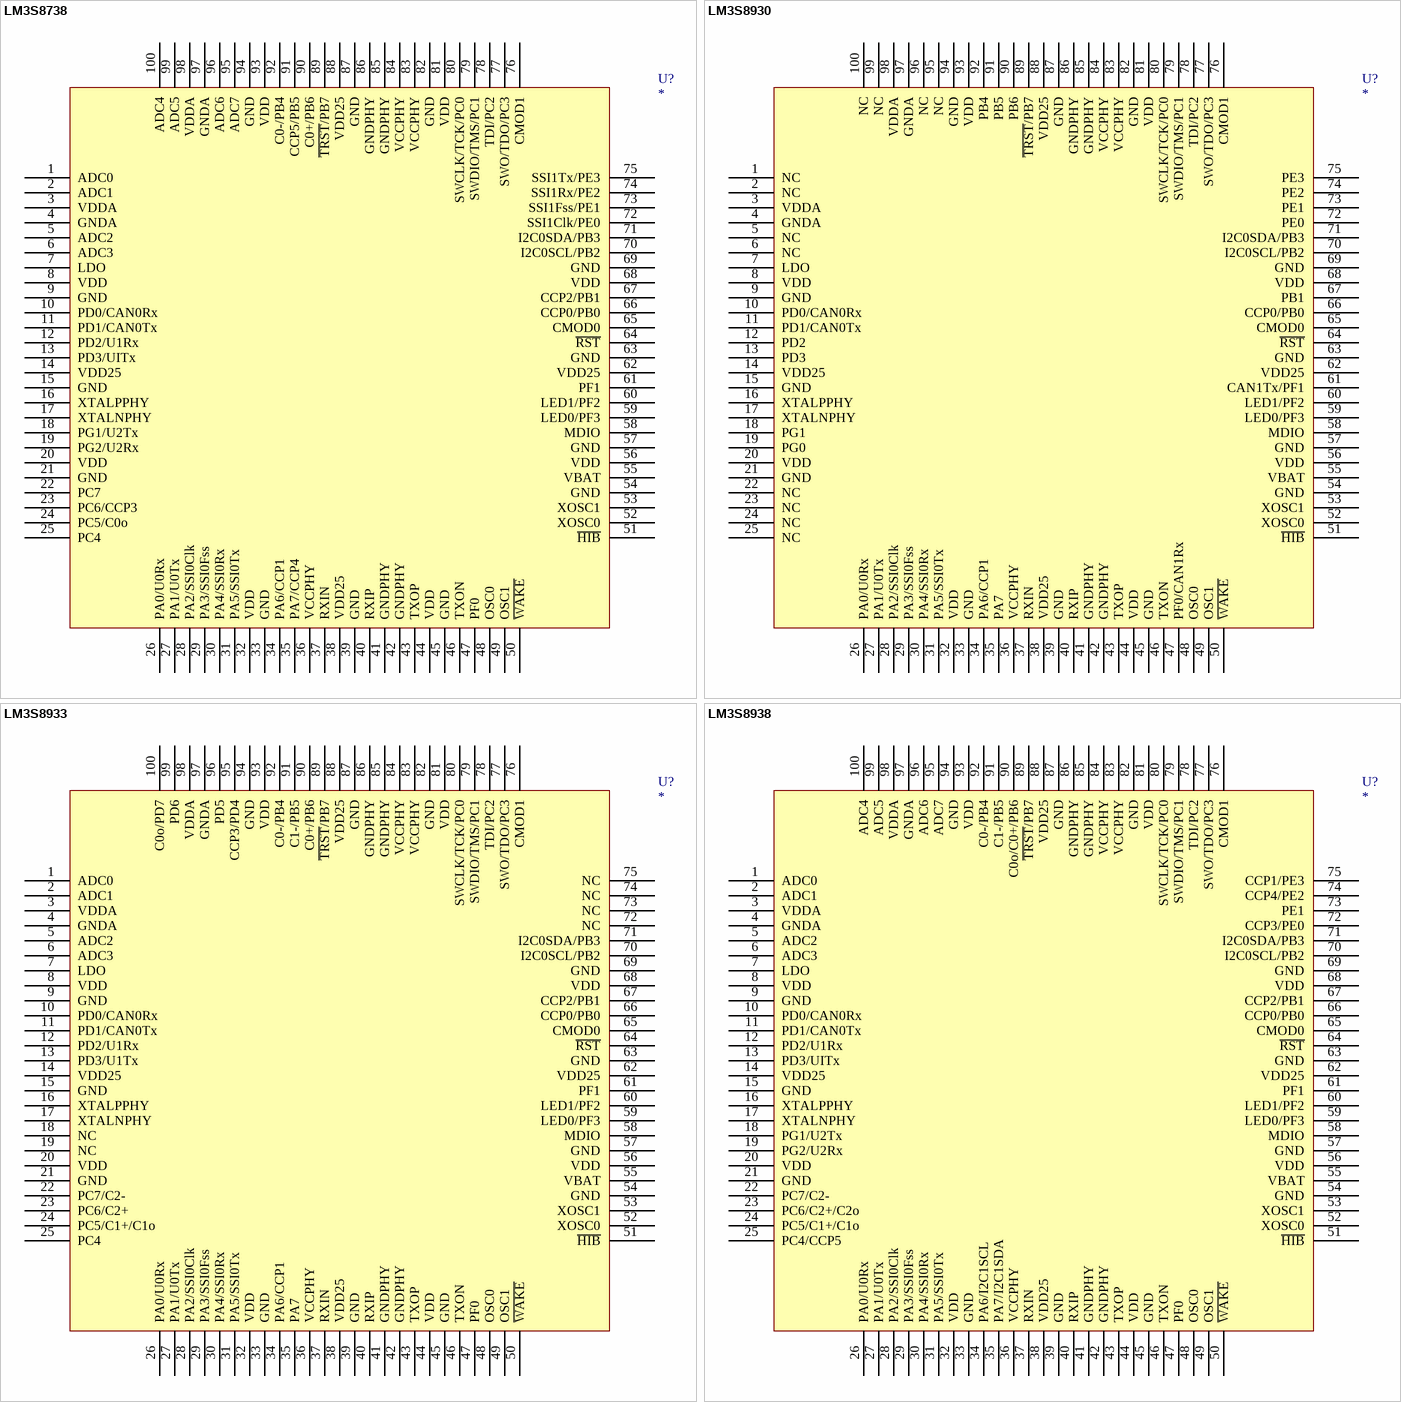
[diagram p39: symbols LM3S8738 to LM3S8938]

## LM3S8738
designator U?
footprint LQFP-100
pins: 1 ADC0, 2 ADC1, 3 VDDA, 4 GNDA, 5 ADC2, 6 ADC3, 7 LDO, 8 VDD, 9 GND, 10 PD0/CAN0Rx, 11 PD1/CAN0Tx, 12 PD2/U1Rx, 13 PD3/UITx, 14 VDD25, 15 GND, 16 XTALPPHY, 17 XTALNPHY, 18 PG1/U2Tx, 19 PG2/U2Rx, 20 VDD, 21 GND, 22 PC7, 23 PC6/CCP3, 24 PC5/C0o, 25 PC4, 26 PA0/U0Rx, 27 PA1/U0Tx, 28 PA2/SSI0Clk, 29 PA3/SSI0Fss, 30 PA4/SSI0Rx, 31 PA5/SSI0Tx, 32 VDD, 33 GND, 34 PA6/CCP1, 35 PA7/CCP4, 36 VCCPHY, 37 RXIN, 38 VDD25, 39 GND, 40 RXIP, 41 GNDPHY, 42 GNDPHY, 43 TXOP, 44 VDD, 45 GND, 46 TXON, 47 PF0, 48 OSC0, 49 OSC1, 50 ~{WAKE}, 51 ~{HIB}, 52 XOSC0, 53 XOSC1, 54 GND, 55 VBAT, 56 VDD, 57 GND, 58 MDIO, 59 LED0/PF3, 60 LED1/PF2, 61 PF1, 62 VDD25, 63 GND, 64 ~{RST}, 65 CMOD0, 66 CCP0/PB0, 67 CCP2/PB1, 68 VDD, 69 GND, 70 I2C0SCL/PB2, 71 I2C0SDA/PB3, 72 SSI1Clk/PE0, 73 SSI1Fss/PE1, 74 SSI1Rx/PE2, 75 SSI1Tx/PE3, 76 CMOD1, 77 SWO/TDO/PC3, 78 TDI/PC2, 79 SWDIO/TMS/PC1, 80 SWCLK/TCK/PC0, 81 VDD, 82 GND, 83 VCCPHY, 84 VCCPHY, 85 GNDPHY, 86 GNDPHY, 87 GND, 88 VDD25, 89 ~{TRST}/PB7, 90 C0+/PB6, 91 CCP5/PB5, 92 C0-/PB4, 93 VDD, 94 GND, 95 ADC7, 96 ADC6, 97 GNDA, 98 VDDA, 99 ADC5, 100 ADC4

## LM3S8930
designator U?
footprint LQFP-100
pins: 1 NC, 2 NC, 3 VDDA, 4 GNDA, 5 NC, 6 NC, 7 LDO, 8 VDD, 9 GND, 10 PD0/CAN0Rx, 11 PD1/CAN0Tx, 12 PD2, 13 PD3, 14 VDD25, 15 GND, 16 XTALPPHY, 17 XTALNPHY, 18 PG1, 19 PG0, 20 VDD, 21 GND, 22 NC, 23 NC, 24 NC, 25 NC, 26 PA0/U0Rx, 27 PA1/U0Tx, 28 PA2/SSI0Clk, 29 PA3/SSI0Fss, 30 PA4/SSI0Rx, 31 PA5/SSI0Tx, 32 VDD, 33 GND, 34 PA6/CCP1, 35 PA7, 36 VCCPHY, 37 RXIN, 38 VDD25, 39 GND, 40 RXIP, 41 GNDPHY, 42 GNDPHY, 43 TXOP, 44 VDD, 45 GND, 46 TXON, 47 PF0/CAN1Rx, 48 OSC0, 49 OSC1, 50 ~{WAKE}, 51 ~{HIB}, 52 XOSC0, 53 XOSC1, 54 GND, 55 VBAT, 56 VDD, 57 GND, 58 MDIO, 59 LED0/PF3, 60 LED1/PF2, 61 CAN1Tx/PF1, 62 VDD25, 63 GND, 64 ~{RST}, 65 CMOD0, 66 CCP0/PB0, 67 PB1, 68 VDD, 69 GND, 70 I2C0SCL/PB2, 71 I2C0SDA/PB3, 72 PE0, 73 PE1, 74 PE2, 75 PE3, 76 CMOD1, 77 SWO/TDO/PC3, 78 TDI/PC2, 79 SWDIO/TMS/PC1, 80 SWCLK/TCK/PC0, 81 VDD, 82 GND, 83 VCCPHY, 84 VCCPHY, 85 GNDPHY, 86 GNDPHY, 87 GND, 88 VDD25, 89 ~{TRST}/PB7, 90 PB6, 91 PB5, 92 PB4, 93 VDD, 94 GND, 95 NC, 96 NC, 97 GNDA, 98 VDDA, 99 NC, 100 NC

## LM3S8933
designator U?
footprint LQFP-100
pins: 1 ADC0, 2 ADC1, 3 VDDA, 4 GNDA, 5 ADC2, 6 ADC3, 7 LDO, 8 VDD, 9 GND, 10 PD0/CAN0Rx, 11 PD1/CAN0Tx, 12 PD2/U1Rx, 13 PD3/U1Tx, 14 VDD25, 15 GND, 16 XTALPPHY, 17 XTALNPHY, 18 NC, 19 NC, 20 VDD, 21 GND, 22 PC7/C2-, 23 PC6/C2+, 24 PC5/C1+/C1o, 25 PC4, 26 PA0/U0Rx, 27 PA1/U0Tx, 28 PA2/SSI0Clk, 29 PA3/SSI0Fss, 30 PA4/SSI0Rx, 31 PA5/SSI0Tx, 32 VDD, 33 GND, 34 PA6/CCP1, 35 PA7, 36 VCCPHY, 37 RXIN, 38 VDD25, 39 GND, 40 RXIP, 41 GNDPHY, 42 GNDPHY, 43 TXOP, 44 VDD, 45 GND, 46 TXON, 47 PF0, 48 OSC0, 49 OSC1, 50 ~{WAKE}, 51 ~{HIB}, 52 XOSC0, 53 XOSC1, 54 GND, 55 VBAT, 56 VDD, 57 GND, 58 MDIO, 59 LED0/PF3, 60 LED1/PF2, 61 PF1, 62 VDD25, 63 GND, 64 ~{RST}, 65 CMOD0, 66 CCP0/PB0, 67 CCP2/PB1, 68 VDD, 69 GND, 70 I2C0SCL/PB2, 71 I2C0SDA/PB3, 72 NC, 73 NC, 74 NC, 75 NC, 76 CMOD1, 77 SWO/TDO/PC3, 78 TDI/PC2, 79 SWDIO/TMS/PC1, 80 SWCLK/TCK/PC0, 81 VDD, 82 GND, 83 VCCPHY, 84 VCCPHY, 85 GNDPHY, 86 GNDPHY, 87 GND, 88 VDD25, 89 ~{TRST}/PB7, 90 C0+/PB6, 91 C1-/PB5, 92 C0-/PB4, 93 VDD, 94 GND, 95 CCP3/PD4, 96 PD5, 97 GNDA, 98 VDDA, 99 PD6, 100 C0o/PD7

## LM3S8938
designator U?
footprint LQFP-100
pins: 1 ADC0, 2 ADC1, 3 VDDA, 4 GNDA, 5 ADC2, 6 ADC3, 7 LDO, 8 VDD, 9 GND, 10 PD0/CAN0Rx, 11 PD1/CAN0Tx, 12 PD2/U1Rx, 13 PD3/UITx, 14 VDD25, 15 GND, 16 XTALPPHY, 17 XTALNPHY, 18 PG1/U2Tx, 19 PG2/U2Rx, 20 VDD, 21 GND, 22 PC7/C2-, 23 PC6/C2+/C2o, 24 PC5/C1+/C1o, 25 PC4/CCP5, 26 PA0/U0Rx, 27 PA1/U0Tx, 28 PA2/SSI0Clk, 29 PA3/SSI0Fss, 30 PA4/SSI0Rx, 31 PA5/SSI0Tx, 32 VDD, 33 GND, 34 PA6/I2C1SCL, 35 PA7/I2C1SDA, 36 VCCPHY, 37 RXIN, 38 VDD25, 39 GND, 40 RXIP, 41 GNDPHY, 42 GNDPHY, 43 TXOP, 44 VDD, 45 GND, 46 TXON, 47 PF0, 48 OSC0, 49 OSC1, 50 ~{WAKE}, 51 ~{HIB}, 52 XOSC0, 53 XOSC1, 54 GND, 55 VBAT, 56 VDD, 57 GND, 58 MDIO, 59 LED0/PF3, 60 LED1/PF2, 61 PF1, 62 VDD25, 63 GND, 64 ~{RST}, 65 CMOD0, 66 CCP0/PB0, 67 CCP2/PB1, 68 VDD, 69 GND, 70 I2C0SCL/PB2, 71 I2C0SDA/PB3, 72 CCP3/PE0, 73 PE1, 74 CCP4/PE2, 75 CCP1/PE3, 76 CMOD1, 77 SWO/TDO/PC3, 78 TDI/PC2, 79 SWDIO/TMS/PC1, 80 SWCLK/TCK/PC0, 81 VDD, 82 GND, 83 VCCPHY, 84 VCCPHY, 85 GNDPHY, 86 GNDPHY, 87 GND, 88 VDD25, 89 ~{TRST}/PB7, 90 C0o/C0+/PB6, 91 C1-/PB5, 92 C0-/PB4, 93 VDD, 94 GND, 95 ADC7, 96 ADC6, 97 GNDA, 98 VDDA, 99 ADC5, 100 ADC4

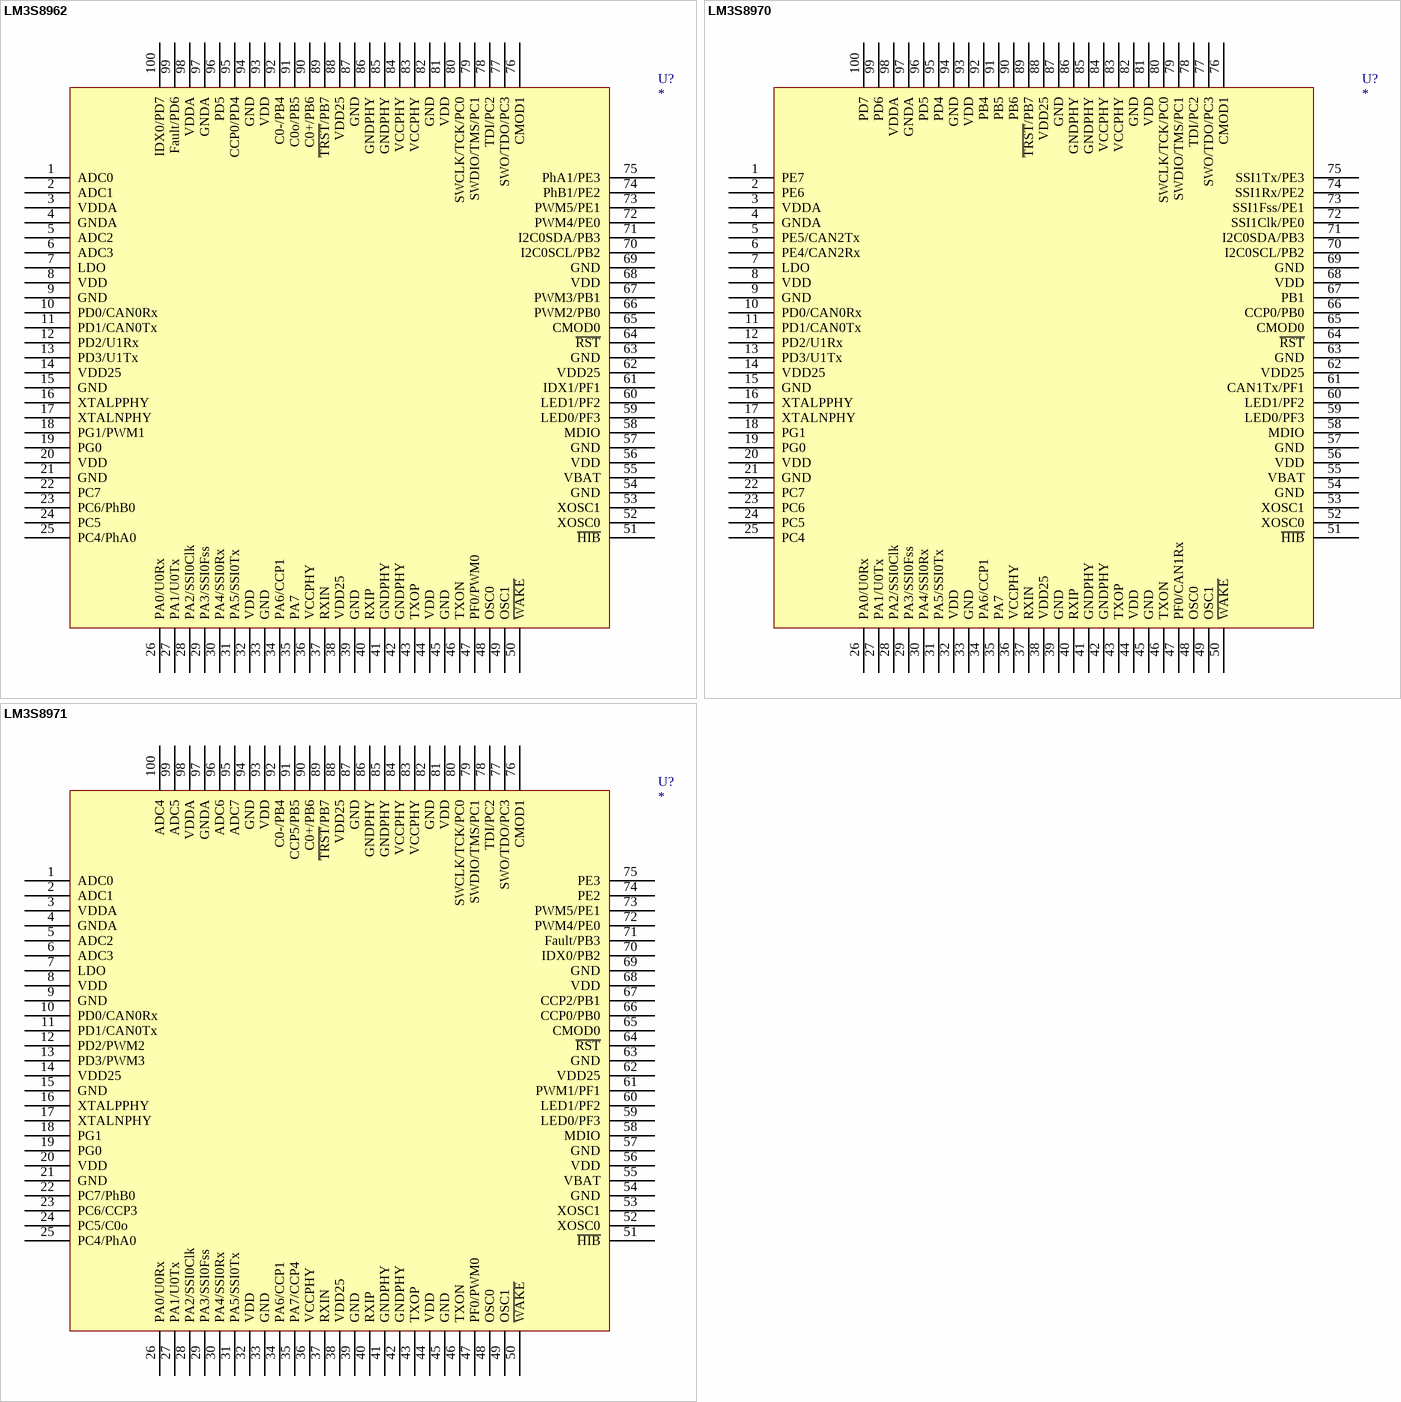
[diagram p40: symbols LM3S8962 to LM3S8971]

## LM3S8962
designator U?
footprint LQFP-100
pins: 1 ADC0, 2 ADC1, 3 VDDA, 4 GNDA, 5 ADC2, 6 ADC3, 7 LDO, 8 VDD, 9 GND, 10 PD0/CAN0Rx, 11 PD1/CAN0Tx, 12 PD2/U1Rx, 13 PD3/U1Tx, 14 VDD25, 15 GND, 16 XTALPPHY, 17 XTALNPHY, 18 PG1/PWM1, 19 PG0, 20 VDD, 21 GND, 22 PC7, 23 PC6/PhB0, 24 PC5, 25 PC4/PhA0, 26 PA0/U0Rx, 27 PA1/U0Tx, 28 PA2/SSI0Clk, 29 PA3/SSI0Fss, 30 PA4/SSI0Rx, 31 PA5/SSI0Tx, 32 VDD, 33 GND, 34 PA6/CCP1, 35 PA7, 36 VCCPHY, 37 RXIN, 38 VDD25, 39 GND, 40 RXIP, 41 GNDPHY, 42 GNDPHY, 43 TXOP, 44 VDD, 45 GND, 46 TXON, 47 PF0/PWM0, 48 OSC0, 49 OSC1, 50 ~{WAKE}, 51 ~{HIB}, 52 XOSC0, 53 XOSC1, 54 GND, 55 VBAT, 56 VDD, 57 GND, 58 MDIO, 59 LED0/PF3, 60 LED1/PF2, 61 IDX1/PF1, 62 VDD25, 63 GND, 64 ~{RST}, 65 CMOD0, 66 PWM2/PB0, 67 PWM3/PB1, 68 VDD, 69 GND, 70 I2C0SCL/PB2, 71 I2C0SDA/PB3, 72 PWM4/PE0, 73 PWM5/PE1, 74 PhB1/PE2, 75 PhA1/PE3, 76 CMOD1, 77 SWO/TDO/PC3, 78 TDI/PC2, 79 SWDIO/TMS/PC1, 80 SWCLK/TCK/PC0, 81 VDD, 82 GND, 83 VCCPHY, 84 VCCPHY, 85 GNDPHY, 86 GNDPHY, 87 GND, 88 VDD25, 89 ~{TRST}/PB7, 90 C0+/PB6, 91 C0o/PB5, 92 C0-/PB4, 93 VDD, 94 GND, 95 CCP0/PD4, 96 PD5, 97 GNDA, 98 VDDA, 99 Fault/PD6, 100 IDX0/PD7

## LM3S8970
designator U?
footprint LQFP-100
pins: 1 PE7, 2 PE6, 3 VDDA, 4 GNDA, 5 PE5/CAN2Tx, 6 PE4/CAN2Rx, 7 LDO, 8 VDD, 9 GND, 10 PD0/CAN0Rx, 11 PD1/CAN0Tx, 12 PD2/U1Rx, 13 PD3/U1Tx, 14 VDD25, 15 GND, 16 XTALPPHY, 17 XTALNPHY, 18 PG1, 19 PG0, 20 VDD, 21 GND, 22 PC7, 23 PC6, 24 PC5, 25 PC4, 26 PA0/U0Rx, 27 PA1/U0Tx, 28 PA2/SSI0Clk, 29 PA3/SSI0Fss, 30 PA4/SSI0Rx, 31 PA5/SSI0Tx, 32 VDD, 33 GND, 34 PA6/CCP1, 35 PA7, 36 VCCPHY, 37 RXIN, 38 VDD25, 39 GND, 40 RXIP, 41 GNDPHY, 42 GNDPHY, 43 TXOP, 44 VDD, 45 GND, 46 TXON, 47 PF0/CAN1Rx, 48 OSC0, 49 OSC1, 50 ~{WAKE}, 51 ~{HIB}, 52 XOSC0, 53 XOSC1, 54 GND, 55 VBAT, 56 VDD, 57 GND, 58 MDIO, 59 LED0/PF3, 60 LED1/PF2, 61 CAN1Tx/PF1, 62 VDD25, 63 GND, 64 ~{RST}, 65 CMOD0, 66 CCP0/PB0, 67 PB1, 68 VDD, 69 GND, 70 I2C0SCL/PB2, 71 I2C0SDA/PB3, 72 SSI1Clk/PE0, 73 SSI1Fss/PE1, 74 SSI1Rx/PE2, 75 SSI1Tx/PE3, 76 CMOD1, 77 SWO/TDO/PC3, 78 TDI/PC2, 79 SWDIO/TMS/PC1, 80 SWCLK/TCK/PC0, 81 VDD, 82 GND, 83 VCCPHY, 84 VCCPHY, 85 GNDPHY, 86 GNDPHY, 87 GND, 88 VDD25, 89 ~{TRST}/PB7, 90 PB6, 91 PB5, 92 PB4, 93 VDD, 94 GND, 95 PD4, 96 PD5, 97 GNDA, 98 VDDA, 99 PD6, 100 PD7

## LM3S8971
designator U?
footprint LQFP-100
pins: 1 ADC0, 2 ADC1, 3 VDDA, 4 GNDA, 5 ADC2, 6 ADC3, 7 LDO, 8 VDD, 9 GND, 10 PD0/CAN0Rx, 11 PD1/CAN0Tx, 12 PD2/PWM2, 13 PD3/PWM3, 14 VDD25, 15 GND, 16 XTALPPHY, 17 XTALNPHY, 18 PG1, 19 PG0, 20 VDD, 21 GND, 22 PC7/PhB0, 23 PC6/CCP3, 24 PC5/C0o, 25 PC4/PhA0, 26 PA0/U0Rx, 27 PA1/U0Tx, 28 PA2/SSI0Clk, 29 PA3/SSI0Fss, 30 PA4/SSI0Rx, 31 PA5/SSI0Tx, 32 VDD, 33 GND, 34 PA6/CCP1, 35 PA7/CCP4, 36 VCCPHY, 37 RXIN, 38 VDD25, 39 GND, 40 RXIP, 41 GNDPHY, 42 GNDPHY, 43 TXOP, 44 VDD, 45 GND, 46 TXON, 47 PF0/PWM0, 48 OSC0, 49 OSC1, 50 ~{WAKE}, 51 ~{HIB}, 52 XOSC0, 53 XOSC1, 54 GND, 55 VBAT, 56 VDD, 57 GND, 58 MDIO, 59 LED0/PF3, 60 LED1/PF2, 61 PWM1/PF1, 62 VDD25, 63 GND, 64 ~{RST}, 65 CMOD0, 66 CCP0/PB0, 67 CCP2/PB1, 68 VDD, 69 GND, 70 IDX0/PB2, 71 Fault/PB3, 72 PWM4/PE0, 73 PWM5/PE1, 74 PE2, 75 PE3, 76 CMOD1, 77 SWO/TDO/PC3, 78 TDI/PC2, 79 SWDIO/TMS/PC1, 80 SWCLK/TCK/PC0, 81 VDD, 82 GND, 83 VCCPHY, 84 VCCPHY, 85 GNDPHY, 86 GNDPHY, 87 GND, 88 VDD25, 89 ~{TRST}/PB7, 90 C0+/PB6, 91 CCP5/PB5, 92 C0-/PB4, 93 VDD, 94 GND, 95 ADC7, 96 ADC6, 97 GNDA, 98 VDDA, 99 ADC5, 100 ADC4